# Altium footprint library SL22 2R018-B.PcbLib: 1 footprints
Each footprint in its own frame and in the unit in brackets; x right, y up, seen from the top. Pads: shape width x height; smd on the part's side, far side on the other; paste and mask are expansions set on the pad; w line width, h text height; cw(c..) or ccw(c..) is an arc to the next point about the centre after c.
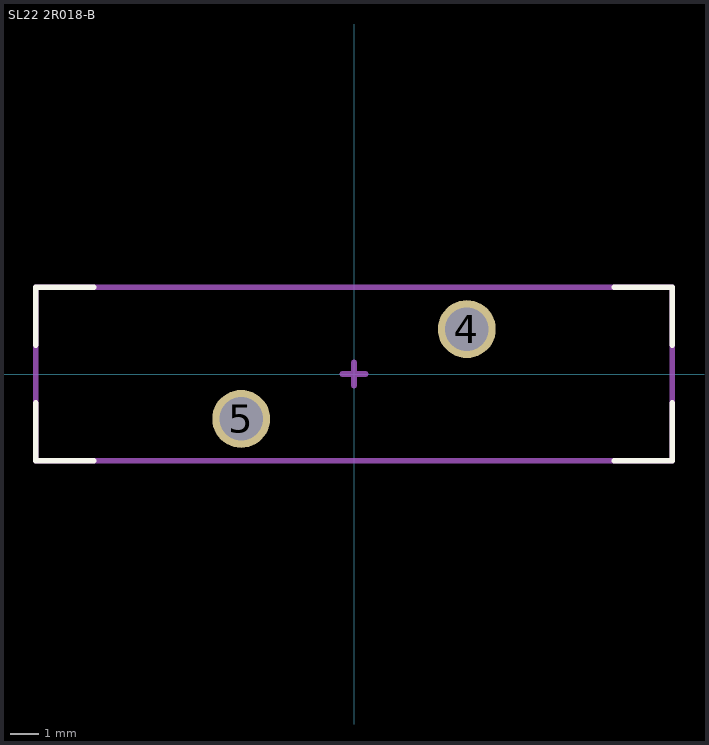
[diagram p0: the footprint, top view; thin cyan lines are the x and y axes]

## SL22 2R018-B [mm]
height 31.35
pads (2):
  round 2 hole 1.5 mask+0: 4(3.9,1.55) 5(-3.9,-1.55)
Top Overlay:
  lines w0.2: -11,-1 -11,-3 -9,-3 ; -11,1 -11,3 -9,3 ; 9,-3 11,-3 11,-1 ; 9,3 11,3 11,1
Mechanical 13:
  lines w0.2: -11,-3 11,-3 11,3 -11,3 -11,-3
Mechanical 15:
  lines w0.2: 0,-0.4 0,0 ; 0,0.4 0,0 ; 0.4,0 -0.4,0 0,0
3D body "SL22.step": height 28, standoff -3.22, extent -11,-3 11,3